# Altium schematic symbol library ROHM.SchLib: 1 symbol
Pins are listed as number, name and electrical type; pins without a type are passive.

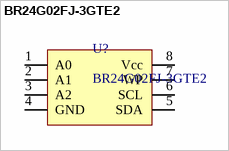
[diagram p0: symbol BR24G02FJ-3GTE2]

## BR24G02FJ-3GTE2
designator U?
Catalog: Farnell; Catalog number: 2373731; Value: BR24G02FJ-3GTE2; Price: 0,20
footprint SOIC 8 127P SO8N (SOIC, 8-Leads, Body 4,9x3,9mm (max), Pitch 1,27mm, IPC Medium Density)
pins: 1 A0, 2 A1, 3 A2, 4 GND, 5 SDA, 6 SCL, 7 WP, 8 Vcc